# EAGLE library part TDA1519CTXX (library Audio-Power-amlifier V.2.0)
22WBTL or 2 ´ 11Wstereo power amplifier
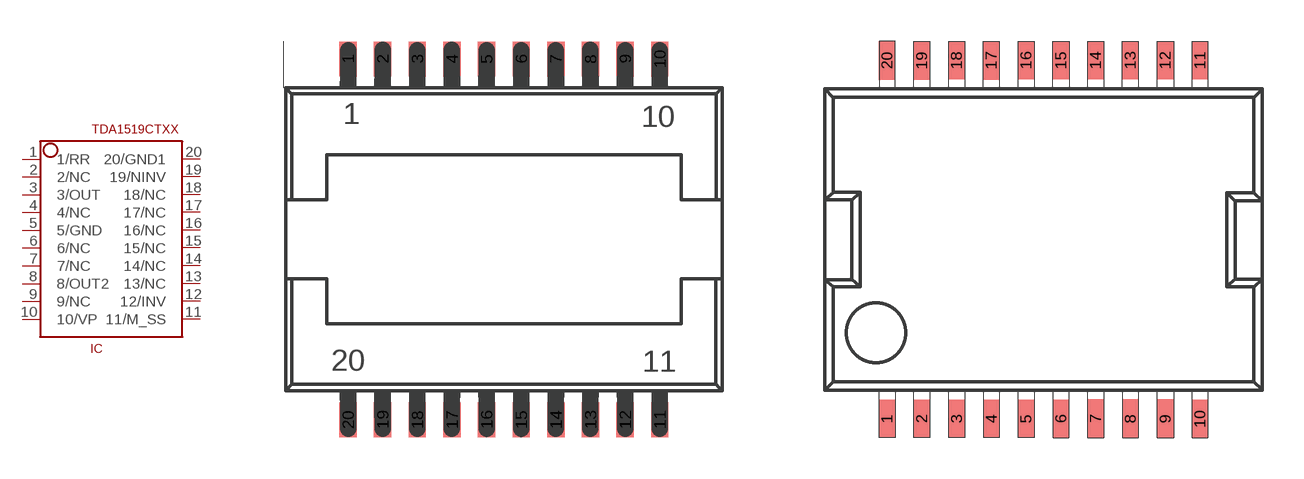
[diagram p56: symbol with the pads of SOT418-3; footprints SOT418-3, SOT397-1]

Designator prefix IC

## TDA1519CTXXTDA1519CTD  [SOT418-3]
1  1/RR
2  2/NC  nc
3  3/OUT  out
4  4/NC  nc
5  5/GND  pwr
6  6/NC  nc
7  7/NC  nc
8  8/OUT2  out
9  9/NC  nc
10  10/VP  pwr
11  11/M_SS
12  12/INV
13  13/NC  nc
14  14/NC  nc
15  15/NC  nc
16  16/NC  nc
17  17/NC  nc
18  18/NC  nc
19  19/NINV
20  20/GND1  pwr

## TDA1519CTXXTDA1519CTH  [SOT397-1]
Pads as for SOT418-3

## Footprint SOT418-3 (pad centres in mm)
smd 0.635 x 1.27: 1 -5.715,6.615; 2 -4.445,6.615; 3 -3.175,6.615; 4 -1.905,6.615; 5 -0.635,6.615; 6 0.635,6.615; 7 1.905,6.615; 8 3.175,6.615; 9 4.445,6.615; 10 5.715,6.615; 11 5.715,-6.615; 12 4.445,-6.615; 13 3.175,-6.615; 14 1.905,-6.615; 15 0.635,-6.615; 16 -0.635,-6.615; 17 -1.905,-6.615; 18 -3.175,-6.615; 19 -4.445,-6.615; 20 -5.715,-6.615

## Footprint SOT397-1 (pad centres in mm)
smd 0.6 x 1.4: 1 -5.715,-6.55; 2 -4.445,-6.55; 3 -3.17,-6.55; 4 -1.9,-6.55; 5 -0.635,-6.55; 6 0.64,-6.55; 7 1.91,-6.545; 8 3.18,-6.545; 9 4.455,-6.545; 10 5.72,-6.55; 11 5.72,6.55; 12 4.45,6.55; 13 3.175,6.55; 14 1.905,6.55; 15 0.64,6.55; 16 -0.635,6.55; 17 -1.905,6.545; 18 -3.175,6.55; 19 -4.445,6.545; 20 -5.715,6.545